# Altium schematic symbol library LM386M-1_NOPB.SchLib: 1 symbol
Pins are listed as number, name and electrical type; pins without a type are passive.

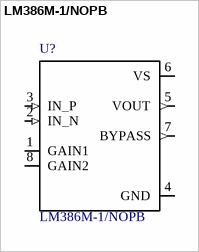
[diagram p0: symbol LM386M-1/NOPB]

## LM386M-1/NOPB
designator U?
Wide Input Voltage Low Power Audio Amplifier with Internal Gain 8-SOIC 0 to 70; MF: Texas Instruments; Price: 0.76 USD; MP: LM386M-1; Availability: Good; SnapEDA_Link: https://www.snapeda.com/parts/LM386M-1/Texas%20Instruments/view-part/?ref=snap; Package: SOIC-8 Texas Instruments; Value: *
footprint SOIC127P600X175-8N
pins: 1 GAIN1, 2 IN_N (in), 3 IN_P (in), 4 GND (power), 5 VOUT (out), 6 VS (power), 7 BYPASS (out), 8 GAIN2